# Altium footprint library CLAP.PcbLib: 265 footprints (part 13 of 17)
Each footprint in its own frame and in the unit in brackets; x right, y up, seen from the top. Pads: shape width x height; smd on the part's side, far side on the other; paste and mask are expansions set on the pad; w line width, h text height; cw(c..) or ccw(c..) is an arc to the next point about the centre after c.
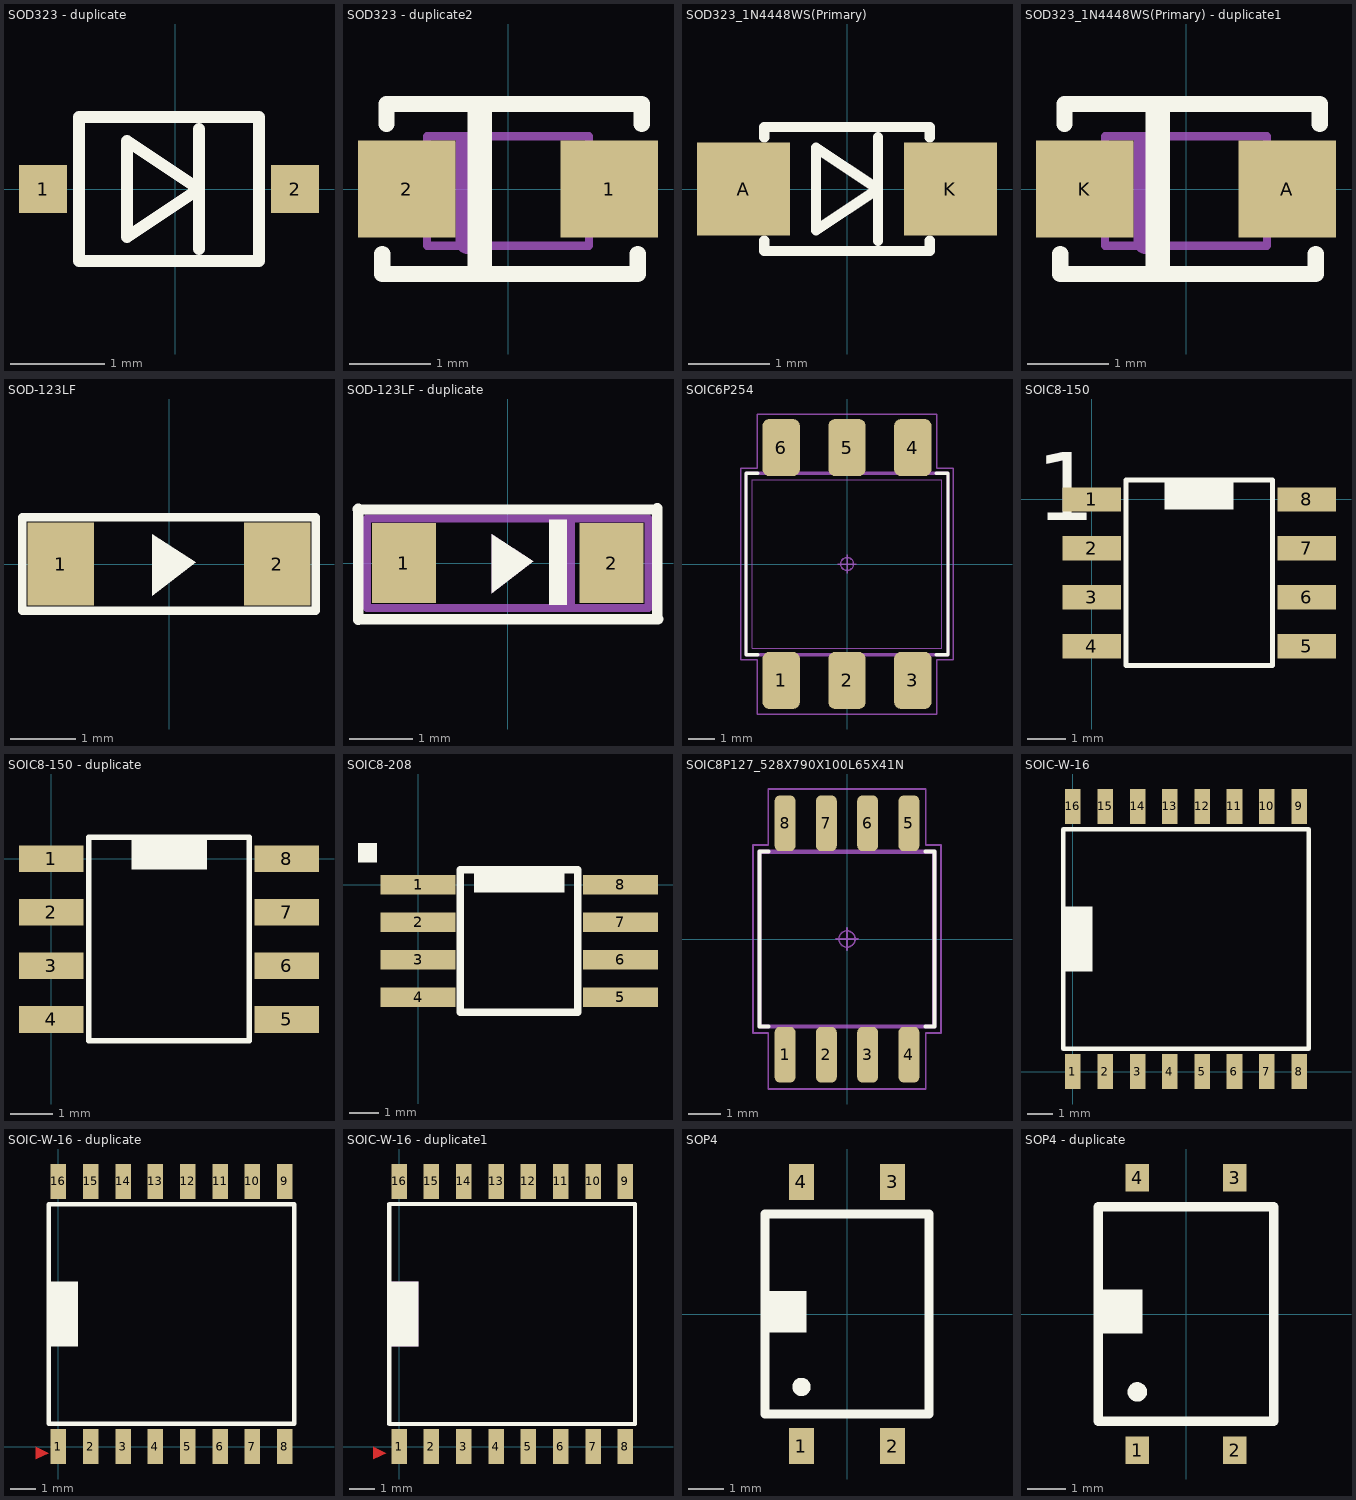
[diagram p12: the footprints below, top view; thin cyan lines are the x and y axes]

## SOD323 - duplicate [mil]
pads (2):
  rect 20x20 smd: 1(-55,0) 2(50,0)
Top Overlay:
  lines w5: 10,-25 10,25 ; -40,-30 35,-30 35,30 -40,30 -40,-30 ; -20,-20 10,0 -20,20 -20,-20
3D body "D_SOD-323.step": height 43.31, standoff 0, extent -49.22,-24.61 49.21,24.6

## SOD323 - duplicate2 [mm]
height 1.17
pads (2):
  rect 1.2x1.2 smd: 1(1.25,0) 2(-1.25,0)
Top Overlay:
  lines w0.2: -1.55,-0.8 -1.55,-1.05 1.6,-1.05 1.6,-0.8 ; -1.5,0.8 -1.5,1.05 1.65,1.05 1.65,0.8
  lines w0.3: -0.35,-1 -0.35,1
Mechanical 1:
  lines w0.1: -1,-0.25 -1.375,-0.25 -1.375,0.25 -1,0.25 ; 1,-0.25 1.375,-0.25 1.375,0.25 1,0.25 ; -1,-0.7 1,-0.7 1,0.65 -1,0.65 -1,-0.7
  lines w0.3: -0.5,-0.65 -0.5,0.55
3D body "D_SOD-323.step": height 1.1, standoff 0, extent -1.25,-0.625 1.25,0.625

## SOD323_1N4448WS(Primary) [mil]
pads (2):
  rect 45x45 smd: A(-50,0) K(50,0)
Top Overlay:
  lines w5: -40,-25 -40,-30 40,-30 40,-25 ; -40,25 -40,30 40,30 40,25 ; 15,-25 15,25 ; -15,-20 -15,20 15,0 -15,-20
3D body "D_SOD-323F.step": height 28.74, standoff 0, extent -49.21,-24.61 49.21,24.6

## SOD323_1N4448WS(Primary) - duplicate1 [mm]
height 1.17
pads (2):
  rect 1.2x1.2 smd: A(1.25,0) K(-1.25,0)
Top Overlay:
  lines w0.2: -1.55,-0.8 -1.55,-1.05 1.6,-1.05 1.6,-0.8 ; -1.5,0.8 -1.5,1.05 1.65,1.05 1.65,0.8
  lines w0.3: -0.35,-1 -0.35,1
Mechanical 1:
  lines w0.1: -1,-0.25 -1.375,-0.25 -1.375,0.25 -1,0.25 ; 1,-0.25 1.375,-0.25 1.375,0.25 1,0.25 ; -1,-0.7 1,-0.7 1,0.65 -1,0.65 -1,-0.7
  lines w0.3: -0.5,-0.65 -0.5,0.55
3D body "D_SOD-123F.step": height 1.1, standoff 0, extent -1.75,-0.8 1.75,0.8

## SOD-123LF [mil]
pads (2):
  rect 40x50 smd: 1(-65,0) 2(65,0)
Top Overlay:
  region: -10,18 -10,-19 16,1
  lines w5: -88,-28 -88,28 88,28 88,-28 -88,-28
3D body "D_SOD-123F.step": height 43.31, standoff 0, extent -68.9,-31.5 68.89,31.5

## SOD-123LF - duplicate [mil]
pads (2):
  rect 40x50 smd: 1(-65,0) 2(65,0)
Top Overlay:
  region: 26,27 37,27 37,-26 26,-26
  region: 16,1 -10,-19 -10,18
  lines w6.69: -93.79,33.67 93.7,33.46 ; -93.7,-35.43 -93.7,33.86 ; -93.39,-35.24 94.09,-35.04 ; 93.7,-34.65 93.7,34.25
Mechanical 1:
  region: 31,-26 42,-26 42,27 31,27
  region: -10,18 -10,-19 16,1
  lines w5: -88,-28 -88,28 88,28 88,-28 -88,-28
3D body "D_SOD-123F.step": height 43.31, standoff 0, extent -68.9,-31.5 68.89,31.49

## SOIC6P254 [mm] "Small Outline IC (SOIC), 2.54 mm pitch; 6 pin, 7.30 mm L X 6.50 mm W X 3.60 mm H body"
height 3.6
pads (6):
  rrect35% 1.44x2.19 smd: 1(-2.54,-4.49) 2(0,-4.49) 3(2.54,-4.49) 4(2.54,4.49) 5(0,4.49) 6(-2.54,4.49)
Top Overlay:
  lines w0.12: -3.44,-3.5 -3.9,-3.5 -3.9,3.5 -3.44,3.5 ; 3.44,-3.5 3.9,-3.5 3.9,3.5 3.44,3.5
Mechanical 11:
  lines w0.12: -3.9,-3.5 -3.9,3.5 3.9,3.5 3.9,-3.5 -3.9,-3.5
Mechanical 12:
  lines w0.025: -3.65,-3.25 -3.65,3.25 3.65,3.25 3.65,-3.25 -3.65,-3.25 ; -3.115,-5.08 -1.965,-5.08 -1.965,-4.08 -3.115,-4.08 -3.115,-5.08 ; -3.115,4.08 -1.965,4.08 -1.965,5.08 -3.115,5.08 -3.115,4.08 ; -0.575,-5.08 0.575,-5.08 0.575,-4.08 -0.575,-4.08 -0.575,-5.08 ; -0.575,4.08 0.575,4.08 0.575,5.08 -0.575,5.08 -0.575,4.08 ; 1.965,-5.08 3.115,-5.08 3.115,-4.08 1.965,-4.08 1.965,-5.08 ; 1.965,4.08 3.115,4.08 3.115,5.08 1.965,5.08 1.965,4.08
Mechanical 15:
  circle w0.05: c0,0 r0.25
  lines w0.05: -0.35,0 0.35,0 ; 0,-0.35 0,0.35 ; -4.1,-3.7 -4.1,3.7 -3.46,3.7 -3.46,5.785 3.46,5.785 3.46,3.7 4.1,3.7 4.1,-3.7 3.46,-3.7 3.46,-5.785 -3.46,-5.785 -3.46,-3.7 -4.1,-3.7
Mechanical 16:
  text ".Designator" at 0,0 h1.2
3D body "SOIC6P254.STEP": height 3.6, standoff 0, extent -3.65,-5.08 3.65,5.08

## SOIC8-150 [mil]
pads (8):
  rect 60x25 smd: 1(0,0) 2(0,-50) 3(0,-100) 4(0,-150) 5(220,-150) 6(220,-100) 7(220,-50) 8(220,0)
Top Overlay:
  region: 75,20 75,-10 145,-10 145,20
  lines w5: 35,-170 35,20 185,20 185,-170 35,-170
  text "1" at -57,-21.5 h69.44
3D body "SOIC-8_3.9x4.9mm_P1.27mm.step": height 68.9, standoff 0, extent -7.87,-171.26 228.35,21.65

## SOIC8-150 - duplicate [mil]
pads (8):
  rect 60x25 smd: 1(0,0) 2(0,-50) 3(0,-100) 4(0,-150) 5(220,-150) 6(220,-100) 7(220,-50) 8(220,0)
Top Overlay:
  region: 145,20 145,-10 75,-10 75,20
  lines w5: 35,-170 35,20 185,20 185,-170 35,-170
3D body "SOIC-8_3.9x4.9mm_P1.27mm.step": height 68.9, standoff 0, extent -7.87,-171.25 228.35,21.66

## SOIC8-208 [mil]
pads (8):
  rect 100x26 smd: 1(0,0) 2(0,-50) 3(0,-100) 4(0,-150) 5(270,-150) 6(270,-100) 7(270,-50) 8(270,0)
Top Overlay:
  region: 75,20 75,-10 195,-10 195,20
  region: -80,30 -55,30 -55,55 -80,55
  lines w10: 56,-170 213,-170 213,20 56,20 56,-170
3D body "SOIC8P127_528X790X100L65X41.STEP": height 39.37, standoff 0, extent -21.65,-178.74 289.37,29.14

## SOIC8P127_528X790X100L65X41N [mm] "Small Outline IC (SOIC), 1.27 mm pitch; 8 pin, 5.28 mm L X 5.28 mm W X 1.00 mm H body"
height 1
pads (8):
  rrect50% 0.64x1.71 smd: 1(-1.905,-3.555) 2(-0.635,-3.555) 3(0.635,-3.555) 4(1.905,-3.555) 5(1.905,3.555) 6(0.635,3.555) 7(-0.635,3.555) 8(-1.905,3.555)
Top Overlay:
  lines w0.12: -2.405,-2.69 -2.69,-2.69 -2.69,2.69 -2.405,2.69 ; 2.405,-2.69 2.69,-2.69 2.69,2.69 2.405,2.69
Mechanical 11:
  lines w0.12: -2.69,-2.69 2.69,-2.69 2.69,2.69 -2.69,2.69 -2.69,-2.69
Mechanical 12:
  lines w0.025: -2.64,-2.64 2.64,-2.64 2.64,2.64 -2.64,2.64 -2.64,-2.64 ; -2.113,-3.95 -2.113,-3.3 -1.697,-3.3 -1.697,-3.95 -2.113,-3.95 ; -2.113,3.3 -2.113,3.95 -1.697,3.95 -1.697,3.3 -2.113,3.3 ; -0.843,-3.95 -0.843,-3.3 -0.427,-3.3 -0.427,-3.95 -0.843,-3.95 ; -0.843,3.3 -0.843,3.95 -0.427,3.95 -0.427,3.3 -0.843,3.3 ; 0.427,-3.95 0.427,-3.3 0.843,-3.3 0.843,-3.95 0.427,-3.95 ; 0.427,3.3 0.427,3.95 0.843,3.95 0.843,3.3 0.427,3.3 ; 1.697,-3.95 1.697,-3.3 2.113,-3.3 2.113,-3.95 1.697,-3.95 ; 1.697,3.3 1.697,3.95 2.113,3.95 2.113,3.3 1.697,3.3
Mechanical 15:
  circle w0.05: c0,0 r0.25
  lines w0.05: -0.35,0 0.35,0 ; 0,-0.35 0,0.35 ; -2.89,-2.89 -2.425,-2.89 -2.425,-4.61 2.425,-4.61 2.425,-2.89 2.89,-2.89 2.89,2.89 2.425,2.89 2.425,4.61 -2.425,4.61 -2.425,2.89 -2.89,2.89 -2.89,-2.89
Mechanical 16:
  text ".Designator" at 0,0 h1.2
3D body "SOIC8P127_528X790X100L65X41.STEP": height 1, standoff 0, extent -2.64,-3.95 2.64,3.95

## SOIC-W-16 [mil]
pads (16):
  rect 24x54 smd: 1(0,0) 2(50,0) 3(100,0) 4(150,0) 5(200,0) 6(250,0) 7(300,0) 8(350,0) 9(350,410) 10(300,410) 11(250,410) 12(200,410) 13(150,410) 14(100,410) 15(50,410) 16(0,410)
Top Overlay:
  region: -15,155 30,155 30,255 -15,255
  lines w7: -15,35 365,35 365,375 -15,375 -15,35
3D body "SOIC-16W_7.5x10.3mm_P1.27mm.step": height 108.27, standoff 0, extent -27.56,3.94 377.95,409.45

## SOIC-W-16 - duplicate [mil]
pads (16):
  rect 24x54 smd: 1(0,0) 2(50,0) 3(100,0) 4(150,0) 5(200,0) 6(250,0) 7(300,0) 8(350,0) 9(350,410) 10(300,410) 11(250,410) 12(200,410) 13(150,410) 14(100,410) 15(50,410) 16(0,410)
Top Layer:
  region: -35,0 -35,-20 -15,-10
Top Overlay:
  region: -15,155 30,155 30,255 -15,255
  lines w7: -15,35 -15,375 365,375 365,35 -15,35
3D body "SOIC-16W_7.5x10.3mm_P1.27mm.step": height 108.27, standoff 0, extent -27.56,5.91 377.95,411.42

## SOIC-W-16 - duplicate1 [mil]
pads (16):
  rect 24x54 smd: 1(0,0) 2(50,0) 3(100,0) 4(150,0) 5(200,0) 6(250,0) 7(300,0) 8(350,0) 9(350,410) 10(300,410) 11(250,410) 12(200,410) 13(150,410) 14(100,410) 15(50,410) 16(0,410)
Top Layer:
  region: -40,0 -40,-20 -20,-10
Top Overlay:
  region: -15,155 30,155 30,255 -15,255
  lines w6.69: -15,35 365,35 365,375 -15,375 -15,35
Mechanical 1:
  region: -15,155 30,155 30,255 -15,255
  lines w3.94: -15,35 365,35 365,375 -15,375 -15,35
3D body "SOIC-16W_7.5x10.3mm_P1.27mm.step": height 108.27, standoff 0, extent -27.56,1.97 377.95,407.48

## SOP4 [mm]
pads (4):
  rect 0.7x1 smd: 1(-1.27,-3.683) 2(1.27,-3.683) 3(1.27,3.683) 4(-1.27,3.683)
Top Overlay:
  circle w0.254: c-1.27,-2.032 r0.127
  region: -2.159,-0.508 -1.143,-0.508 -1.143,0.635 -2.159,0.635
  lines w0.254: -2.286,-2.794 -2.286,2.794 2.286,2.794 2.286,-2.794 -2.286,-2.794
3D body "SOIC254P700X210-4N.stp": height 2.1, standoff 0, extent -2.05,-3.7 2.05,3.7

## SOP4 - duplicate [mil]
pads (4):
  rect 24x28 smd: 1(-50,-140) 2(50,-140) 3(50,140) 4(-50,140)
Top Overlay:
  circle w10: c-50,-80 r5
  region: -85,-20 -45,-20 -45,25 -85,25
  lines w10: -90,-110 90,-110 90,110 -90,110 -90,-110
3D body "SOIC254P700X210-4N.stp": height 82.68, standoff 0, extent -80.71,-145.67 80.71,145.67